# Altium schematic symbol library LKMJ2502A681MF.SchLib: 1 symbol
Pins are listed as number, name and electrical type; pins without a type are passive.

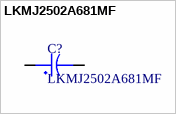
[diagram p0: symbol LKMJ2502A681MF]

## LKMJ2502A681MF
designator C?
footprint LKMJ2502A681MF
pins: 1, 2